# Altium footprint library slave_pcb.PcbLib: 16 footprints
Each footprint in its own frame and in the unit in brackets; x right, y up, seen from the top. Pads: shape width x height; smd on the part's side, far side on the other; paste and mask are expansions set on the pad; w line width, h text height; cw(c..) or ccw(c..) is an arc to the next point about the centre after c.
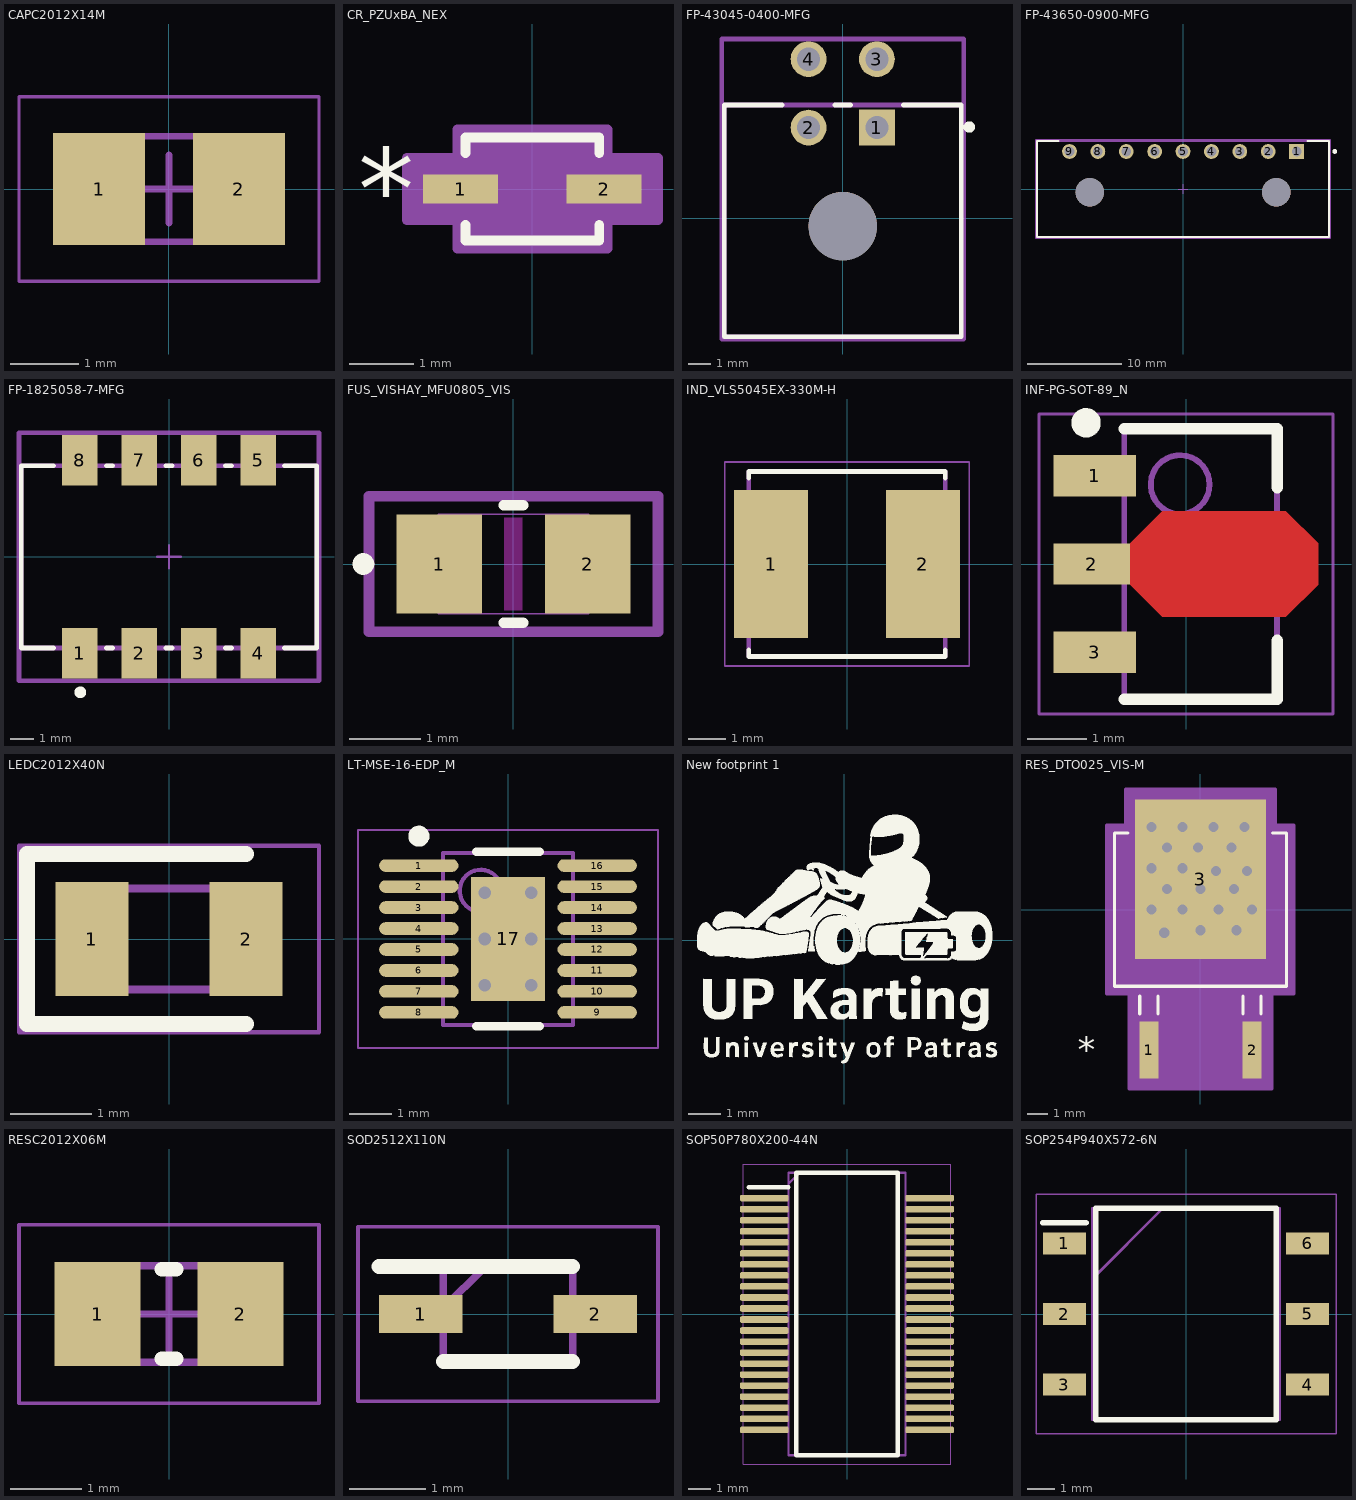
[diagram p0: the footprints below, top view; thin cyan lines are the x and y axes]

## CAPC2012X14M [mm] "Chip Capacitor, 2-Leads, Body 2.00x1.25mm, IPC Low Density"
height 1.4
pads (2):
  rect 1.35x1.65 smd: 1(-1.025,0) 2(1.025,0)
Mechanical 13:
  lines w0.1: -1.15,-0.775 1.15,-0.775 1.15,0.775 -1.15,0.775 -1.15,-0.775
Mechanical 15:
  lines w0.05: -2.2,-1.35 2.2,-1.35 2.2,1.35 -2.2,1.35 -2.2,-1.35
  lines w0.1: -0.5,0 0.5,0 ; 0,-0.5 0,0.5
3D body: height 1.4, standoff 0, extent 0.77,-0.775 1.15,0.775
3D body: height 1.4, standoff 0, extent -1.15,-0.775 -0.77,0.775
3D body: height 1.4, standoff 0, extent -0.77,-0.775 0.77,0.775

## CR_PZUxBA_NEX [mil]
pads (2):
  rect 46x18 smd paste+0 mask+0: 1(-44,0) 2(44,0)
Top Overlay:
  lines w6: -41,-22.1 -41,-31.5 41,-31.5 41,-22.1 ; -41,22.1 -41,31.5 41,31.5 41,22.1
  text "*" at -106.84,-24.81 h50
Mechanical 13:
  lines w1: -36,-13.25 -22.75,-26.5 ; -36,13.25 -22.75,26.5 ; -53,-8 -36,-8 -36,8 -53,8 -53,-8 ; -36,-26.5 -36,26.5 36,26.5 36,-26.5 -36,-26.5 ; 36,-8 53,-8 53,8 36,8 36,-8
  text "*" at -38.5,-25 h50
Mechanical 15:
  region: -46,-19 -77,-19 -77,19 -46,19 -46,36.5 46,36.5 46,19 77,19 77,-19 46,-19 46,-36.5 -46,-36.5
  lines w6: -77,-19 -46,-19 -46,-36.5 46,-36.5 46,-19 77,-19 77,19 46,19 46,36.5 -46,36.5 -46,19 -77,19 -77,-19
3D body "CR_PZUxBA_NEX.step": height 43.11, standoff 0, extent -52.99,-26.5 52.99,26.5

## FP-43045-0400-MFG [mm]
pads (5):
  rect 1.57x1.57 hole 1.02 paste-2539.97 mask+0: 1(1.5,3.965)
  round 1.57 hole 1.02 paste-2539.97 mask+0: 2(-1.5,3.965) 3(1.5,6.965) 4(-1.5,6.965)
  round 3 hole 3 unplated paste-2539.97 mask+0: ""(0,-0.355)
Top Overlay:
  circle w0.25: c5.55,3.99 r0.125
  lines w0.2: -2.66,4.955 -5.2,4.955 -5.2,-5.205 5.2,-5.205 5.2,4.955 2.66,4.955 ; -0.34,4.955 0.34,4.955
Top 3D Body:
  lines w0.2: -5.2,-5.205 5.2,-5.205 5.2,4.955 -5.2,4.955 -5.2,-5.205
Top Courtyard:
  lines w0.2: -5.3,-5.305 5.3,-5.305 5.3,7.85 -5.3,7.85 -5.3,-5.305
Top Assembly:
  lines w0.2: -5.3,-5.305 5.3,-5.305 5.3,7.85 -5.3,7.85 -5.3,-5.305
  text ".Designator" at 0.1,1.451 h0.8
Top Component Center:
  lines w0.1: -0.5,0 0.5,0 ; 0,-0.5 0,0.5
3D body "Conn_Molex_43045-0400_eec.STEP": height 0.25, standoff 0, extent -5.3,-5.305 5.3,7.85

## FP-43650-0900-MFG [mm]
pads (11):
  rect 1.57x1.57 hole 1.02 paste-2539.97 mask+0: 1(12,3.97)
  round 1.57 hole 1.02 paste-2539.97 mask+0: 2(9,3.97) 3(6,3.97) 4(3,3.97) 5(0,3.97) 6(-3,3.97) 7(-6,3.97) 8(-9,3.97) 9(-12,3.97)
  round 3 hole 3 unplated paste-2539.97 mask+0: ""(-9.85,-0.35) ""(9.85,-0.35)
Top Overlay:
  circle w0.25: c16.04,3.97 r0.125
  lines w0.2: -13.16,5.075 -15.44,5.075 -15.44,-5.075 15.44,-5.075 15.44,5.075 13.16,5.075
Top 3D Body:
  lines w0.2: -15.44,-5.075 -15.44,5.075 15.44,5.075 15.44,-5.075 -15.44,-5.075
Top Courtyard:
  lines w0.2: -15.54,-5.175 -15.54,5.175 15.54,5.175 15.54,-5.175 -15.54,-5.175
Top Assembly:
  lines w0.2: -15.54,-5.175 -15.54,5.175 15.54,5.175 15.54,-5.175 -15.54,-5.175
  text ".Designator" at 0.1,0.367 h0.8
Top Component Center:
  lines w0.1: -0.5,0 0.5,0 ; 0,-0.5 0,0.5
3D body "Conn_Molex_43650-0900_eec.STEP": height 0.25, standoff 0, extent -15.54,-5.175 15.54,5.175

## FP-1825058-7-MFG [mm]
pads (8):
  rect 1.52x2.16 smd paste+0 mask+0: 1(-3.81,-4.13) 2(-1.27,-4.13) 3(1.27,-4.13) 4(3.81,-4.13) 5(3.81,4.13) 6(1.27,4.13) 7(-1.27,4.13) 8(-3.81,4.13)
Top Overlay:
  circle w0.25: c-3.795,-5.8 r0.125
  lines w0.2: -4.945,-3.9 -6.32,-3.9 -6.32,3.9 -4.945,3.9 ; -2.675,-3.9 -2.405,-3.9 ; -2.675,3.9 -2.405,3.9 ; -0.135,-3.9 0.135,-3.9 ; -0.135,3.9 0.135,3.9 ; 2.405,-3.9 2.675,-3.9 ; 2.405,3.9 2.675,3.9 ; 4.945,-3.9 6.32,-3.9 6.32,3.9 4.945,3.9
Top 3D Body:
  lines w0.2: -6.32,-3.9 -6.32,3.9 6.32,3.9 6.32,-3.9 -6.32,-3.9
Top Courtyard:
  lines w0.2: -6.42,-5.31 -6.42,5.31 6.42,5.31 6.42,-5.31 -6.42,-5.31
Top Assembly:
  lines w0.2: -6.42,-5.31 -6.42,5.31 6.42,5.31 6.42,-5.31 -6.42,-5.31
  text ".Designator" at 0.1,0.178 h0.8
Top Component Center:
  lines w0.1: -0.5,0 0.5,0 ; 0,-0.5 0,0.5
3D body "Switch_TE_Connectivity_1825058-7_eec.STEP": height 0.25, standoff 0, extent -6.42,-5.31 6.42,5.31

## FUS_VISHAY_MFU0805_VIS [mm]
pads (2):
  rect 1.2x1.397 smd paste+0 mask+0.051: 1(-1.044,0) 2(1.044,0)
Top Layer keep-out:
  region: -0.127,-0.648 -0.127,0.648 0.127,0.648 0.127,-0.648
Top Overlay:
  circle w0.152: c-2.108,0 r0.076
  lines w0.152: -0.137,-0.826 0.137,-0.826 ; -0.137,0.826 0.137,0.826
Mechanical 13:
  circle w0.025: c-0.978,0 r0.076
  lines w0.025: -1.054,-0.699 1.054,-0.699 1.054,0.699 -1.054,0.699 -1.054,-0.699
Mechanical 15:
  lines w0.152: -2.032,-0.953 -2.032,0.953 -1.308,0.953 1.308,0.953 2.032,0.953 2.032,-0.953 1.308,-0.953 -1.308,-0.953 -2.032,-0.953
3D body "FUS_VISHAY_MFU0805_VIS.step": height 0.56, standoff 0, extent -1.054,-0.701 1.054,0.701

## IND_VLS5045EX-330M-H [mm]
height 4.5
pads (2):
  rect 2x4 smd: 1(-2.05,0) 2(2.05,0)
Top Overlay:
  lines w0.127: -2.65,-2.32 -2.65,-2.5 2.65,-2.5 2.65,-2.32 ; -2.65,2.32 -2.65,2.5 2.65,2.5 2.65,2.32
Mechanical 13:
  lines w0.127: -2.65,-2.5 2.65,-2.5 2.65,2.5 -2.65,2.5 -2.65,-2.5
Mechanical 15:
  lines w0.05: -3.3,-2.75 3.3,-2.75 3.3,2.75 -3.3,2.75 -3.3,-2.75
3D body "step_temp.STEP": height 4.5, standoff 0, extent -2.65,-2.5 2.65,2.5

## INF-PG-SOT-89_N [mm] "SOT89, 3-Leads, Body 4.5x2.5mm, Pitch 1.5mm, IPC Medium Density"
height 1.6
pads (3):
  rect 1.4x0.7 smd: 1(-1.55,1.5) 3(-1.55,-1.5)
  rect 1.3x0.7 smd: 2(-1.6,0)
Top Layer:
  region: -0.95,0.35 -0.4,0.9 1.7,0.9 2.25,0.35 2.25,-0.35 1.7,-0.9 -0.4,-0.9 -0.95,-0.35
Top Overlay:
  circle w0.25: c-1.7,2.4 r0.125
  lines w0.2: -1.05,-2.3 1.55,-2.3 1.55,-1.3 ; -1.05,2.3 1.55,2.3 1.55,1.3
Mechanical 13:
  circle w0.1: c-0.1,1.35 r0.5
  lines w0.1: -1.05,-2.3 -1.05,2.3 1.55,2.3 1.55,-2.3 -1.05,-2.3
Mechanical 15:
  lines w0.05: -2.5,-2.55 -2.5,2.55 2.5,2.55 2.5,-2.55 -2.5,-2.55
  lines w0.1: -0.25,0 0.75,0 ; 0.25,-0.5 0.25,0.5
3D body: height 1.6, standoff 0, extent -1.05,-2.3 1.55,2.3

## LEDC2012X40N [mm]
pads (2):
  rect 0.9x1.4 smd: 1(-0.95,0) 2(0.95,0)
Top Overlay:
  lines w0.2: 0.95,-1.05 -1.75,-1.05 -1.75,1.05 0.95,1.05
Mechanical 13:
  lines w0.1: -1,0.208 -0.583,0.625 ; -1,-0.625 1,-0.625 1,0.625 -1,0.625 -1,-0.625
Mechanical 15:
  lines w0.05: -1.85,-1.15 1.85,-1.15 1.85,1.15 -1.85,1.15 -1.85,-1.15
3D body "LS_R976-NR-1.stp": height 0.8, standoff 0, extent -1.03,-0.65 0.97,0.65

## LT-MSE-16-EDP_M [mm] "SOP, 16-Leads, Body 4.1x3.1mm, Pitch 0.5mm, Thermal Pad 2.95x1.76mm, IPC Low Density"
height 1.1
pads (17):
  oval 1.89x0.3 smd: 1(-2.125,1.75) 2(-2.125,1.25) 3(-2.125,0.75) 4(-2.125,0.25) 5(-2.125,-0.25) 6(-2.125,-0.75) 7(-2.125,-1.25) 8(-2.125,-1.75) 9(2.125,-1.75) 10(2.125,-1.25) 11(2.125,-0.75) 12(2.125,-0.25) 13(2.125,0.25) 14(2.125,0.75) 15(2.125,1.25) 16(2.125,1.75)
  rect 1.76x2.95 smd: 17(0,0)
via -0.55,1.1 diameter 0.6 hole 0.3
via 0.55,1.1 diameter 0.6 hole 0.3
via -0.55,0 diameter 0.6 hole 0.3
via 0.55,0 diameter 0.6 hole 0.3
via -0.55,-1.1 diameter 0.6 hole 0.3
via 0.55,-1.1 diameter 0.6 hole 0.3
Top Overlay:
  circle w0.25: c-2.125,2.45 r0.125
  lines w0.2: -0.755,-2.075 0.755,-2.075 ; -0.755,2.075 0.755,2.075
Mechanical 13:
  circle w0.1: c-0.65,1.15 r0.5
  lines w0.1: -1.55,-2.05 1.55,-2.05 1.55,2.05 -1.55,2.05 -1.55,-2.05
Mechanical 15:
  lines w0.05: -3.575,-2.6 3.575,-2.6 3.575,2.6 -3.575,2.6 -3.575,-2.6
  lines w0.1: -0.5,0 0.5,0 ; 0,-0.5 0,0.5
3D body: height 1.1, standoff 0.05, extent -1.55,-2.05 1.55,2.05

## New footprint 1 [mm]
Top Overlay:
  drawing of 35 lines, arcs and shapes, not listed

## RES_DTO025_VIS-M [mil]
pads (3):
  rect 37x111 smd paste+0 mask+0: 1(-100,-272) 2(100,-272)
  rect 254x309 smd paste+0 mask+0: 3(0,59)
via 70,-40 diameter 31.5 hole 19.68
via 0,-40 diameter 31.5 hole 19.68
via -70,-45 diameter 31.5 hole 19.68
via 100,0 diameter 31.5 hole 19.68
via 35,0 diameter 31.5 hole 19.68
via -35,0 diameter 31.5 hole 19.68
via -95,0 diameter 31.5 hole 19.68
via 65,40 diameter 31.5 hole 19.68
via 0,40 diameter 31.5 hole 19.68
via -65,40 diameter 31.5 hole 19.68
via 90,75 diameter 31.5 hole 19.68
via 85,160 diameter 31.5 hole 19.68
via -95,160 diameter 31.5 hole 19.68
via -35,160 diameter 31.5 hole 19.68
via 25,160 diameter 31.5 hole 19.68
via 30,75 diameter 31.5 hole 19.68
via -35,80 diameter 31.5 hole 19.68
via -95,80 diameter 31.5 hole 19.68
via 60,120 diameter 31.5 hole 19.68
via -5,120 diameter 31.5 hole 19.68
via -65,120 diameter 31.5 hole 19.68
Top Overlay:
  lines w6: -140.1,148.5 -166.5,148.5 -166.5,-148.5 166.5,-148.5 166.5,148.5 140.1,148.5 ; -117.5,-202.5 -117.5,-167.5 ; -82.5,-202.5 -82.5,-167.5 ; 82.5,-202.5 82.5,-167.5 ; 117.5,-202.5 117.5,-167.5
  text "*" at -237.5,-297 h50
Mechanical 13:
  lines w1: -161.5,-143.5 161.5,-143.5 161.5,143.5 -161.5,143.5 -161.5,-143.5 ; -117.5,-305.5 -117.5,-143.5 -82.5,-143.5 -82.5,-305.5 -117.5,-305.5 ; 82.5,-305.5 82.5,-143.5 117.5,-143.5 117.5,-305.5 82.5,-305.5
  text "*" at -112.5,-158.5 h50
Mechanical 15:
  region: -181.5,-163.5 -181.5,163.5 -145,163.5 -145,233.5 145,233.5 145,163.5 181.5,163.5 181.5,-163.5 138.5,-163.5 138.5,-347.5 -138.5,-347.5 -138.5,-163.5
  lines w6: -181.5,-163.5 -181.5,163.5 -145,163.5 -145,233.5 145,233.5 145,163.5 181.5,163.5 181.5,-163.5 138.5,-163.5 138.5,-347.5 -138.5,-347.5 -138.5,-163.5 -181.5,-163.5
3D body "RES_DTO025_VIS.step": height 110.12, standoff -2.01, extent -161.5,-305.51 161.5,182.48

## RESC2012X06M [mm] "Chip Resistor, 2-Leads, Body 2.00x1.25mm, IPC Low Density"
height 0.6
pads (2):
  rect 1.2x1.45 smd: 1(-1,0) 2(1,0)
Top Overlay:
  lines w0.2: -0.1,-0.625 0.1,-0.625 ; -0.1,0.625 0.1,0.625
Mechanical 13:
  lines w0.1: -1.05,-0.675 1.05,-0.675 1.05,0.675 -1.05,0.675 -1.05,-0.675
Mechanical 15:
  lines w0.05: -2.1,-1.25 2.1,-1.25 2.1,1.25 -2.1,1.25 -2.1,-1.25
  lines w0.1: -0.5,0 0.5,0 ; 0,-0.5 0,0.5
3D body: height 0.6, standoff 0, extent 0.7,-0.675 1.05,0.675
3D body: height 0.6, standoff 0, extent -1.05,-0.675 -0.7,0.675
3D body: height 0.6, standoff 0, extent -0.7,-0.675 0.7,0.675

## SOD2512X110N [mm]
pads (2):
  rect 1.1x0.5 smd: 1(-1.15,0) 2(1.15,0)
Top Overlay:
  lines w0.2: -1.7,0.625 0.85,0.625 ; -0.85,-0.625 0.85,-0.625
Mechanical 13:
  lines w0.1: -0.85,0.075 -0.3,0.625 ; -0.85,-0.625 -0.85,0.625 0.85,0.625 0.85,-0.625 -0.85,-0.625
Mechanical 15:
  lines w0.05: -1.975,-1.15 -1.975,1.15 1.975,1.15 1.975,-1.15 -1.975,-1.15
3D body "BZX384-C9V1.stp": height 0.93, standoff 0, extent -1.244,-0.623 1.245,0.627

## SOP50P780X200-44N [mm]
pads (44):
  rrect50% 2.2x0.3 smd mask+0.04: 1(-3.75,5.25) 2(-3.75,4.75) 3(-3.75,4.25) 4(-3.75,3.75) 5(-3.75,3.25) 6(-3.75,2.75) 7(-3.75,2.25) 8(-3.75,1.75) 9(-3.75,1.25) 10(-3.75,0.75) 11(-3.75,0.25) 12(-3.75,-0.25) 13(-3.75,-0.75) 14(-3.75,-1.25) 15(-3.75,-1.75) 16(-3.75,-2.25) 17(-3.75,-2.75) 18(-3.75,-3.25) 19(-3.75,-3.75) 20(-3.75,-4.25) 21(-3.75,-4.75) 22(-3.75,-5.25) 23(3.75,-5.25) 24(3.75,-4.75) 25(3.75,-4.25) 26(3.75,-3.75) 27(3.75,-3.25) 28(3.75,-2.75) 29(3.75,-2.25) 30(3.75,-1.75) 31(3.75,-1.25) 32(3.75,-0.75) 33(3.75,-0.25) 34(3.75,0.25) 35(3.75,0.75) 36(3.75,1.25) 37(3.75,1.75) 38(3.75,2.25) 39(3.75,2.75) 40(3.75,3.25) 41(3.75,3.75) 42(3.75,4.25) 43(3.75,4.75) 44(3.75,5.25)
Top Overlay:
  lines w0.2: -4.45,5.75 -2.65,5.75 ; -2.3,-6.4 2.3,-6.4 2.3,6.4 -2.3,6.4 -2.3,-6.4
Mechanical 13:
  lines w0.1: -2.65,5.9 -2.15,6.4 ; -2.65,-6.4 2.65,-6.4 2.65,6.4 -2.65,6.4 -2.65,-6.4
Mechanical 15:
  lines w0.05: -4.7,-6.8 4.7,-6.8 4.7,6.8 -4.7,6.8 -4.7,-6.8
3D body "LTC6810HG-2#3ZZPBF.stp": height 2, standoff 0, extent -3.9,-6.4 3.9,6.4

## SOP254P940X572-6N [mm]
pads (6):
  rect 1.55x0.8 smd: 1(-4.375,2.54) 2(-4.375,0) 3(-4.375,-2.54) 4(4.375,-2.54) 5(4.375,0) 6(4.375,2.54)
Top Overlay:
  lines w0.2: -5.15,3.29 -3.6,3.29 ; -3.25,-3.81 -3.25,3.81 3.25,3.81 3.25,-3.81 -3.25,-3.81
Mechanical 13:
  lines w0.1: -3.365,1.27 -0.825,3.81 ; -3.365,-3.81 -3.365,3.81 3.365,3.81 3.365,-3.81 -3.365,-3.81
Mechanical 15:
  lines w0.05: -5.4,-4.315 -5.4,4.315 5.4,4.315 5.4,-4.315 -5.4,-4.315
3D body "HM2103NLT.stp": height 5.72, standoff 0, extent -4.7,-3.81 4.7,3.81